# Altium schematic symbol library PS,AC-DC,5Vout,10W,IRM-10-5.Schlib: 1 symbol
Pins are listed as number, name and electrical type; pins without a type are passive.

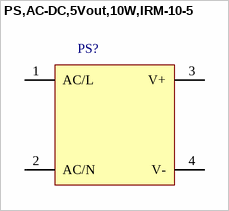
[diagram p0: symbol PS,AC-DC,5Vout,10W,IRM-10-5]

## PS,AC-DC,5Vout,10W,IRM-10-5
designator PS?
pins: 1 AC/L (power), 2 AC/N (power), 3 V+ (power), 4 V- (power)